# Altium footprint library TSSOP-16_WIDE.PcbLib: 1 footprints
Each footprint in its own frame and in the unit in brackets; x right, y up, seen from the top. Pads: shape width x height; smd on the part's side, far side on the other; paste and mask are expansions set on the pad; w line width, h text height; cw(c..) or ccw(c..) is an arc to the next point about the centre after c.
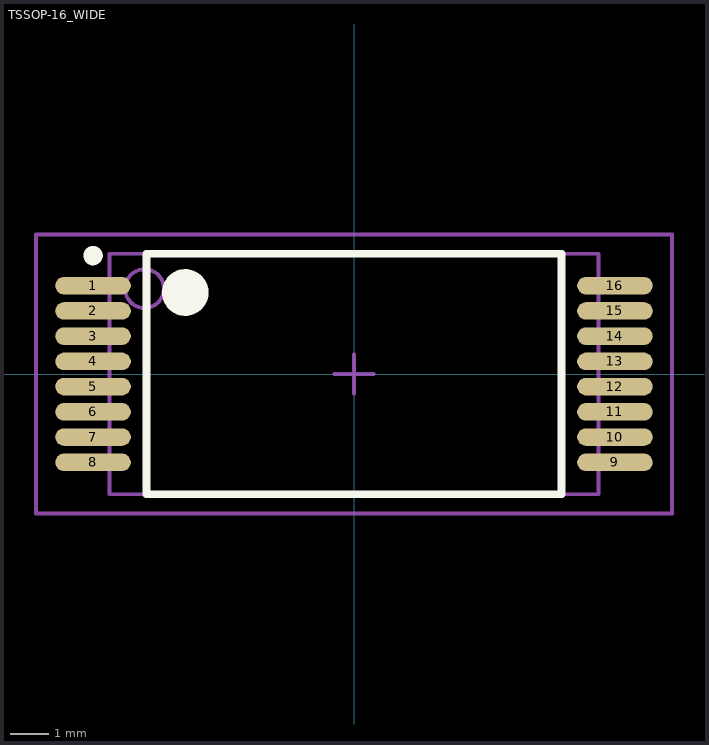
[diagram p0: the footprint, top view; thin cyan lines are the x and y axes]

## TSSOP-16_WIDE [mm] "TSOP, 16-Leads, Body 6.2x12.6mm, Pitch 0.65mm, IPC Low Density"
height 1.27
pads (16):
  oval 1.95x0.45 smd: 1(-6.725,2.275) 2(-6.725,1.625) 3(-6.725,0.975) 4(-6.725,0.325) 5(-6.725,-0.325) 6(-6.725,-0.975) 7(-6.725,-1.625) 8(-6.725,-2.275) 9(6.725,-2.275) 10(6.725,-1.625) 11(6.725,-0.975) 12(6.725,-0.325) 13(6.725,0.325) 14(6.725,0.975) 15(6.725,1.625) 16(6.725,2.275)
Top Overlay:
  circle w0.25: c-6.725,3.05 r0.125
  circle w0.6: c-4.35,2.1 r0.3
  lines w0.2: -5.35,-3.1 -5.35,3.1 5.35,3.1 5.35,-3.1 -5.35,-3.1
Mechanical 13:
  circle w0.1: c-5.4,2.2 r0.5
  lines w0.1: -6.3,-3.1 -6.3,3.1 6.3,3.1 6.3,-3.1 -6.3,-3.1
Mechanical 15:
  lines w0.1: -0.5,0 0.5,0 ; 0,-0.5 0,0.5 ; -8.2,-3.6 -8.2,3.6 8.2,3.6 8.2,-3.6 -8.2,-3.6
3D body: height 1.27, standoff 0, extent -6.3,-3.1 6.3,3.1